# Altium footprint library 155.PcbLib: 3 footprints
Each footprint in its own frame and in the unit in brackets; x right, y up, seen from the top. Pads: shape width x height; smd on the part's side, far side on the other; paste and mask are expansions set on the pad; w line width, h text height; cw(c..) or ccw(c..) is an arc to the next point about the centre after c.
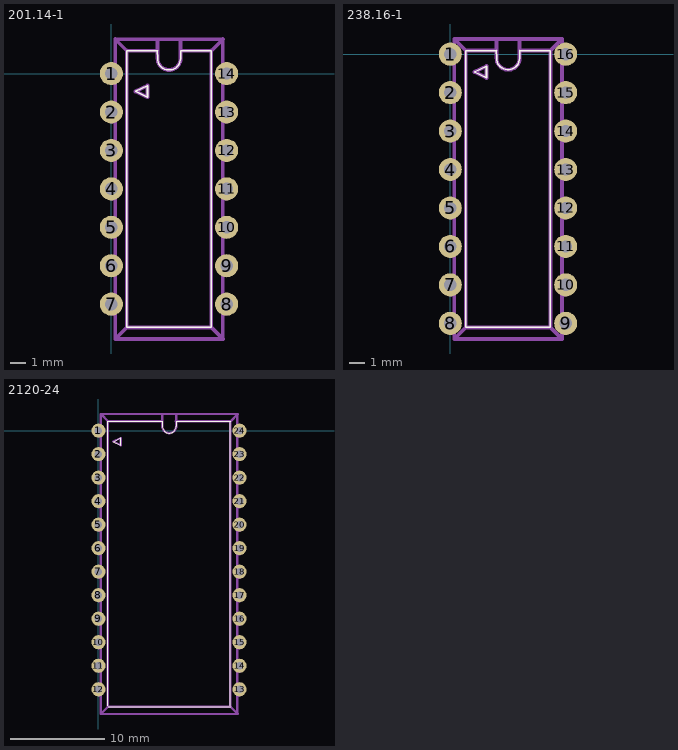
[diagram p0: the footprints below, top view; thin cyan lines are the x and y axes]

## 201.14-1 [mm]
pads (14):
  round 1.5 hole 0.8: 1(0,0) 2(0,-2.5) 3(0,-5) 4(0,-7.5) 5(0,-10) 6(0,-12.5) 7(0,-15) 8(7.5,-15) 9(7.5,-12.5) 10(7.5,-10) 11(7.5,-7.5) 12(7.5,-5) 13(7.5,-2.5) 14(7.5,0)
Top Overlay:
  lines w0.1: 1,-16.5 1,1.5 ; 1.004,-16.516 6.504,-16.516 ; 1.004,1.484 3.004,1.484 ; 3,1.5 3.004,0.984 ccw(c3.754,0.984) 4.504,0.984 4.5,1.5 ; 4.504,1.484 6.504,1.484 ; 6.5,-16.5 6.5,1.5 ; 1.576,-1.161 2.352,-1.541 2.352,-0.781 1.576,-1.161
Mechanical 1:
  lines w0.25: -0.2,0 0,0 ; 0.004,-15.316 -0.219,-15.316 -0.219,-15.016 -0.219,-14.716 0.004,-14.716 ; 0.004,-12.816 -0.219,-12.816 -0.219,-12.516 -0.219,-12.216 0.004,-12.216 ; 0.004,-10.316 -0.219,-10.316 -0.219,-10.016 -0.219,-9.716 0.004,-9.716 ; 0.004,-7.816 -0.219,-7.816 -0.219,-7.516 -0.219,-7.216 0.004,-7.216 ; 0.004,-5.316 -0.219,-5.316 -0.219,-5.016 -0.219,-4.716 0.004,-4.716 ; 0.004,-2.816 -0.219,-2.816 -0.219,-2.516 -0.219,-2.216 0.004,-2.216 ; 0.004,-0.316 -0.219,-0.316 -0.219,-0.016 -0.219,0.284 0.004,0.284 ; 0.25,-17.25 0.25,2.25 ; 0.254,-15.616 0.004,-15.616 0.004,-14.416 0.254,-14.416 ; 0.254,-13.116 0.004,-13.116 0.004,-11.916 0.254,-11.916 ; 0.254,-10.616 0.004,-10.616 0.004,-9.416 0.254,-9.416 ; 0.254,-8.116 0.004,-8.116 0.004,-6.916 0.254,-6.916 ; 0.254,-5.616 0.004,-5.616 0.004,-4.416 0.254,-4.416 ; 0.254,-3.116 0.004,-3.116 0.004,-1.916 0.254,-1.916 ; 0.254,-0.616 0.004,-0.616 0.004,0.584 0.254,0.584 ; 1,-16.5 1,1.5 ; 3.004,1.484 1.004,1.484 0.254,2.234 7.254,2.234 6.504,1.484 4.504,1.484 ; 3.004,2.234 3.004,0.984 ccw(c3.754,0.984) 4.504,0.984 4.504,2.234 ; 6.5,-16.5 6.5,1.5 ; 7.25,-17.25 7.25,2.25 ; 7.254,-15.616 7.504,-15.616 7.504,-14.416 7.254,-14.416 ; 7.254,-13.116 7.504,-13.116 7.504,-11.916 7.254,-11.916 ; 7.254,-10.616 7.504,-10.616 7.504,-9.416 7.254,-9.416 ; 7.254,-8.116 7.504,-8.116 7.504,-6.916 7.254,-6.916 ; 7.254,-5.616 7.504,-5.616 7.504,-4.416 7.254,-4.416 ; 7.254,-3.116 7.504,-3.116 7.504,-1.916 7.254,-1.916 ; 7.254,-0.616 7.504,-0.616 7.504,0.584 7.254,0.584 ; 7.504,-15.316 7.727,-15.316 7.727,-15.016 7.727,-14.716 7.504,-14.716 ; 7.504,-12.816 7.727,-12.816 7.727,-12.516 7.727,-12.216 7.504,-12.216 ; 7.504,-10.316 7.727,-10.316 7.727,-10.016 7.727,-9.716 7.504,-9.716 ; 7.504,-7.816 7.727,-7.816 7.727,-7.516 7.727,-7.216 7.504,-7.216 ; 7.504,-5.316 7.727,-5.316 7.727,-5.016 7.727,-4.716 7.504,-4.716 ; 7.504,-2.816 7.727,-2.816 7.727,-2.516 7.727,-2.216 7.504,-2.216 ; 7.504,-0.316 7.727,-0.316 7.727,-0.016 7.727,0.284 7.504,0.284 ; 0.254,-17.266 7.254,-17.266 6.504,-16.516 1.004,-16.516 0.254,-17.266 ; 1.576,-1.161 2.352,-1.541 2.352,-0.781 1.576,-1.161

## 238.16-1 [mm]
pads (16):
  round 1.5 hole 0.8: 1(0,0) 2(0,-2.5) 3(0,-5) 4(0,-7.5) 5(0,-10) 6(0,-12.5) 7(0,-15) 8(0,-17.5) 9(7.5,-17.5) 10(7.5,-15) 11(7.5,-12.5) 12(7.5,-10) 13(7.5,-7.5) 14(7.5,-5) 15(7.5,-2.5) 16(7.5,0)
Top Overlay:
  lines w0.1: 3,0.25 3.004,-0.266 ccw(c3.754,-0.266) 4.504,-0.266 4.5,0.25 ; 3.004,0.234 1.004,0.234 1.004,-17.766 6.504,-17.766 6.504,0.234 4.504,0.234 ; 1.576,-1.161 2.352,-1.541 2.352,-0.781 1.576,-1.161
Mechanical 1:
  lines w0.25: -0.2,0 0,0 ; 0.004,-17.816 -0.219,-17.816 -0.219,-17.516 -0.219,-17.216 0.004,-17.216 ; 0.004,-15.316 -0.219,-15.316 -0.219,-15.016 -0.219,-14.716 0.004,-14.716 ; 0.004,-12.816 -0.219,-12.816 -0.219,-12.516 -0.219,-12.216 0.004,-12.216 ; 0.004,-10.316 -0.219,-10.316 -0.219,-10.016 -0.219,-9.716 0.004,-9.716 ; 0.004,-7.816 -0.219,-7.816 -0.219,-7.516 -0.219,-7.216 0.004,-7.216 ; 0.004,-5.316 -0.219,-5.316 -0.219,-5.016 -0.219,-4.716 0.004,-4.716 ; 0.004,-2.816 -0.219,-2.816 -0.219,-2.516 -0.219,-2.216 0.004,-2.216 ; 0.004,-0.316 -0.219,-0.316 -0.219,-0.016 -0.219,0.284 0.004,0.284 ; 0.254,-18.116 0.004,-18.116 0.004,-16.916 0.254,-16.916 ; 0.254,-15.616 0.004,-15.616 0.004,-14.416 0.254,-14.416 ; 0.254,-13.116 0.004,-13.116 0.004,-11.916 0.254,-11.916 ; 0.254,-10.616 0.004,-10.616 0.004,-9.416 0.254,-9.416 ; 0.254,-8.116 0.004,-8.116 0.004,-6.916 0.254,-6.916 ; 0.254,-5.616 0.004,-5.616 0.004,-4.416 0.254,-4.416 ; 0.254,-3.116 0.004,-3.116 0.004,-1.916 0.254,-1.916 ; 0.254,-0.616 0.004,-0.616 0.004,0.584 0.254,0.584 ; 3.004,0.234 1.004,0.234 ; 3.004,0.984 3.004,-0.266 ccw(c3.754,-0.266) 4.504,-0.266 4.504,0.984 ; 4.504,0.234 6.504,0.234 ; 7.254,-18.116 7.504,-18.116 7.504,-16.916 7.254,-16.916 ; 7.254,-15.616 7.504,-15.616 7.504,-14.416 7.254,-14.416 ; 7.254,-13.116 7.504,-13.116 7.504,-11.916 7.254,-11.916 ; 7.254,-10.616 7.504,-10.616 7.504,-9.416 7.254,-9.416 ; 7.254,-8.116 7.504,-8.116 7.504,-6.916 7.254,-6.916 ; 7.254,-5.616 7.504,-5.616 7.504,-4.416 7.254,-4.416 ; 7.254,-3.116 7.504,-3.116 7.504,-1.916 7.254,-1.916 ; 7.254,-0.616 7.504,-0.616 7.504,0.584 7.254,0.584 ; 7.504,-17.816 7.727,-17.816 7.727,-17.516 7.727,-17.216 7.504,-17.216 ; 7.504,-15.316 7.727,-15.316 7.727,-15.016 7.727,-14.716 7.504,-14.716 ; 7.504,-12.816 7.727,-12.816 7.727,-12.516 7.727,-12.216 7.504,-12.216 ; 7.504,-10.316 7.727,-10.316 7.727,-10.016 7.727,-9.716 7.504,-9.716 ; 7.504,-7.816 7.727,-7.816 7.727,-7.516 7.727,-7.216 7.504,-7.216 ; 7.504,-5.316 7.727,-5.316 7.727,-5.016 7.727,-4.716 7.504,-4.716 ; 7.504,-2.816 7.727,-2.816 7.727,-2.516 7.727,-2.216 7.504,-2.216 ; 7.504,-0.316 7.727,-0.316 7.727,-0.016 7.727,0.284 7.504,0.284 ; 0.254,-18.516 7.254,-18.516 ; 0.254,-18.516 0.254,0.984 ; 0.254,-18.516 1.004,-17.766 ; 0.254,0.984 7.254,0.984 ; 0.254,0.984 1.004,0.234 ; 1.004,-17.766 6.504,-17.766 ; 1.004,-17.766 1.004,0.234 ; 6.504,-17.766 6.504,0.234 ; 6.504,-17.766 7.254,-18.516 ; 6.504,0.234 7.254,0.984 ; 7.254,-18.516 7.254,0.984 ; 1.576,-1.161 2.352,-1.541 2.352,-0.781 1.576,-1.161

## 2120-24 [mm]
pads (24):
  round 1.5 hole 0.8: 1(0,0) 2(0,-2.5) 3(0,-5) 4(0,-7.5) 5(0,-10) 6(0,-12.5) 7(0,-15) 8(0,-17.5) 9(0,-20) 10(0,-22.5) 11(0,-25) 12(0,-27.5) 13(15,-27.5) 14(15,-25) 15(15,-22.5) 16(15,-20) 17(15,-17.5) 18(15,-15) 19(15,-12.5) 20(15,-10) 21(15,-7.5) 22(15,-5) 23(15,-2.5) 24(15,0)
Top Overlay:
  lines w0.1: 1,-29.25 1,1 ; 1.016,-29.368 14.05,-29.35 ; 1.016,1.004 6.75,1 ; 6.77,1 6.774,0.484 ccw(c7.524,0.484) 8.274,0.484 8.27,1 ; 8.25,1 14.05,1 ; 14,-29.25 14,1 ; 1.576,-1.161 2.352,-1.541 2.352,-0.781 1.576,-1.161
Mechanical 1:
  drawing of 187 lines, arcs and shapes, not listed